# EAGLE library part MPX4115 (library MPX4115)
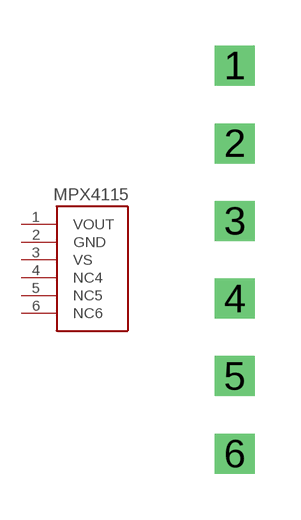
[diagram p0: symbol with the pads of MPX4115; footprint MPX4115]

Designator prefix -

## MPX4115  [MPX4115]
1  VOUT  out
2  GND  in
3  VS  pwr
4  NC4  nc
5  NC5  nc
6  NC6  nc

## Footprint MPX4115 (pad centres in mm)
drill 0.8 square: 1 0,7.62; 2 0,5.08; 3 0,2.54; 4 0,0; 5 0,-2.54; 6 0,-5.08